# Altium schematic symbol library Crystals.SchLib: 3 symbols
Pins are listed as number, name and electrical type; pins without a type are passive.

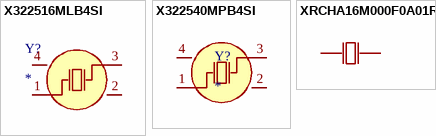
[diagram p0: symbols X322516MLB4SI to XRCHA16M000F0A01R0]

## X322516MLB4SI
designator Y?
Crystal or Oscillator 16MHz; Manufacturer_Name: Yangxing Tech; Manufacturer_Part_Number: X322516MLB4SI; Description: Crystal; Datasheet Link: https://datasheet.lcsc.com/szlcsc/Yangxing-Tech-X322516MLB4SI_C13738.pdf; Height: 0.8mm
footprint X322516MLB4SI
pins: 1 OSC1, 2 GND, 3 OSC2, 4 GND

## X322540MPB4SI
designator Y?
Crystal or Oscillator 40MHz; Manufacturer_Name: Yangxing Tech; Manufacturer_Part_Number: X322540MPB4SI; Datasheet Link: https://datasheet.lcsc.com/szlcsc/Yangxing-Tech-X322540MPB4SI_C9010.pdf; Height: 0.8mm
footprint X322540MPB4SI
pins: 1 OSC1, 2 GND, 3 OSC2, 4 GND

## XRCHA16M000F0A01R0
designator X?  (value not drawn)
C194421 16MHz; Manufacturer: muRata(村田); Add into BOM: yes; Normal temperature Frequency Tolerance: ±100ppm; External load capacitor: 8pF; Equivalent Series Resistance (ESR): 100Ω; Symbol: XRCHA16M000F0A01R0; Device: XRCHA16M000F0A01R0; LCSC Part Name: 16MHz ±100ppm 8pF; Supplier Part: C194421; Manufacturer Part: XRCHA16M000F0A01R0; Supplier Footprint: SMD2520; JLCPCB Part Class: Extended Part; Datasheet: https://atta.szlcsc.com/upload/public/pdf/source/20180612/C194422_06565775B57778BDF1B4843308802948.pdf; Supplier: LCSC; Convert to PCB: yes; Crystal Type: -; Value: 16MHz; Frequency Stability(Full temperature range): ±100ppm; Operating Temperature: -40℃~+125℃
footprint OSC-SMD_L2.5-W2.0
pins: 1 OSC1, 2 OSC2